# EAGLE library part 46113-0121 (library 46113-0121)
Heavy Duty Power Connectors LPH VERT.SIGNAL ASSY SY W INTERLOCK 12CKT Source: Datasheet <https://componentsearchengine.com/Datasheets/1/46113-0121.pdf>
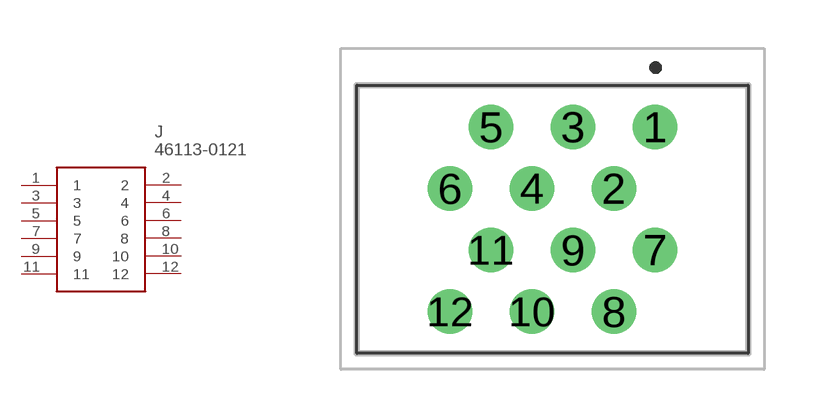
[diagram p0: symbol with the pads of 461130121; footprint 461130121]

Designator prefix J

## 46113-0121 (Description: Heavy Duty Power Connectors LPH VERT.SIGNAL ASSY SY W INTERLOCK 12CKT; Height: 12.29mm; Manufacturer_Name: Molex; Manufacturer_Part_Number: 46113-0121; Mouser_Part_Number: 538-46113-0121; Mouser_Price-Stock: https://www.mouser.com/Search/Refine.aspx?Keyword=538-46113-0121)  [461130121]
1  1
2  2
3  3
4  4
5  5
6  6
7  7
8  8
9  9
10  10
11  11
12  12

## Footprint 461130121 (pad centres in mm)
46113-0121-1
drill 0.85 pad 1.381: 1 0,0; 2 -1.27,-1.91; 3 -2.54,0; 4 -3.81,-1.91; 5 -5.08,0; 6 -6.35,-1.91; 7 0,-3.82; 8 -1.27,-5.73; 9 -2.54,-3.82; 10 -3.81,-5.73; 11 -5.08,-3.82; 12 -6.35,-5.73